# Altium footprint library PCB - LEADED - SOT - DIODES SOT-363.PCBLIB: 1 footprints
Each footprint in its own frame and in the unit in brackets; x right, y up, seen from the top. Pads: shape width x height; smd on the part's side, far side on the other; paste and mask are expansions set on the pad; w line width, h text height; cw(c..) or ccw(c..) is an arc to the next point about the centre after c.
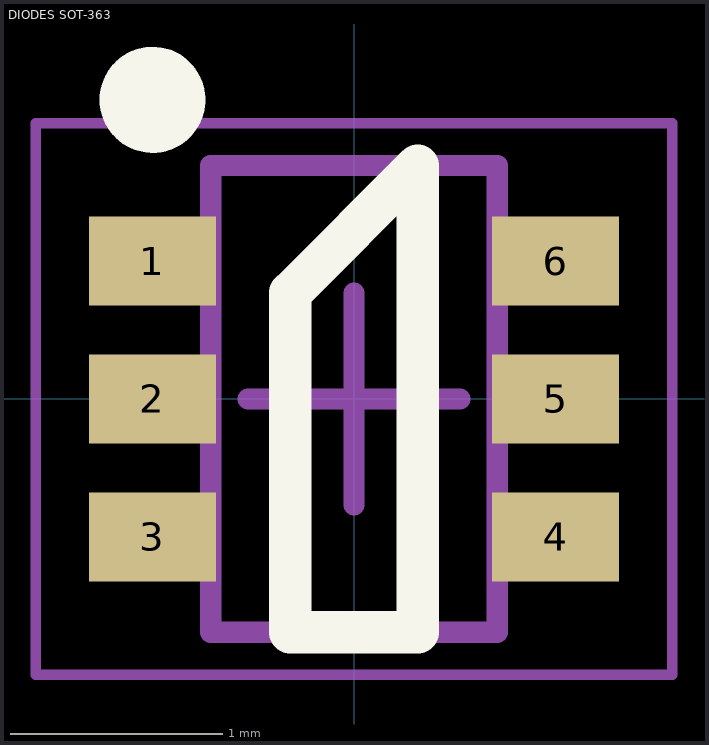
[diagram p0: the footprint, top view; thin cyan lines are the x and y axes]

## DIODES SOT-363 [mm] "SOT363, 6-Leads, Body 2.00x2.10mm, Pitch 0.65mm, IPC Medium Density"
height 1.1
pads (6):
  rect 0.6x0.42 smd: 1(-0.95,0.65) 2(-0.95,0) 3(-0.95,-0.65) 4(0.95,-0.65) 5(0.95,0) 6(0.95,0.65)
Top Overlay:
  circle w0.25: c-0.95,1.41 r0.125
  lines w0.2: -0.3,-1.1 -0.3,0.5 0.3,1.1 0.3,-1.1 -0.3,-1.1
Mechanical 13:
  lines w0.1: -0.675,-1.1 0.675,-1.1 0.675,1.1 -0.675,1.1 -0.675,-1.1
Mechanical 15:
  lines w0.05: -1.5,-1.3 1.5,-1.3 1.5,1.3 -1.5,1.3 -1.5,-1.3
  lines w0.1: -0.5,0 0.5,0 ; 0,-0.5 0,0.5
3D body "SOT-363.STEP": height 1.05, standoff 0, extent -1.058,-1.1 1.058,1.1